# Altium schematic symbol library Interface_I2C.SchLib: 424 symbols (part 12 of 23)
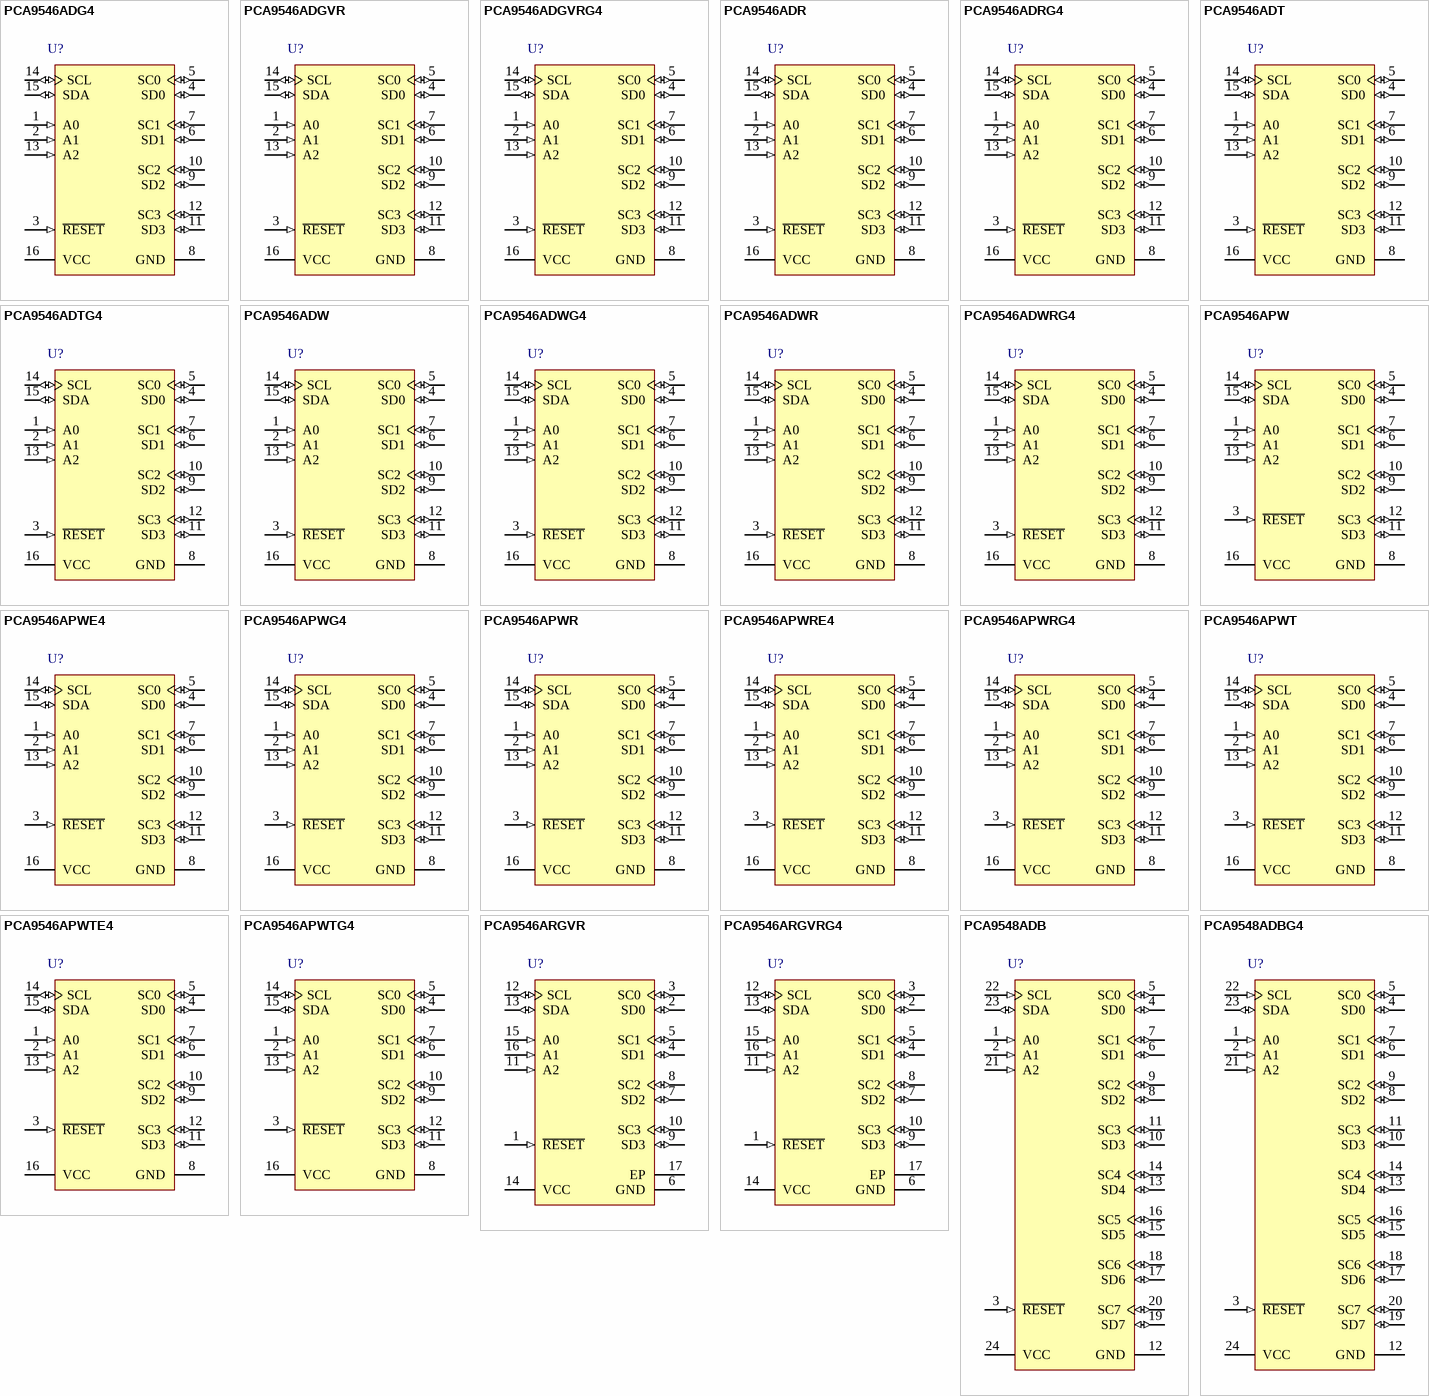
[diagram p24: symbols PCA9546ADG4 to PCA9548ADBG4]

## PCA9548ADBG4
designator U?
8-Channel I2C Switch with Reset, 2.3 to 5.5 V, -40 to 85 degC, 24-pin SSOP (DB), Green (RoHS & no Sb/Br); Manufacturer: Texas Instruments; PartNumber: PCA9548ADBG4; SubFamily: I2C Multiplexer, Switch; Technology Family: PCA; fSCLK(Max)(MHz): 100, 400; VCC(Min)(V): 2.3; VCC(Max)(V): 5.5; Max Frequency(kHz): 400; I2C Address: 1110 xxx; Channel Width: 8; Reset Input: Yes; Simultaneously Active Channels: 1 to 8; DatasheetVersion: SCPS143C; PackageVersion: revE, Dec-2001; PackageReference: DB24; PackageDescription: 24-Pin Plastic Small Outline Package, 8.2 x 5.3 mm Body, 0.65 mm Pitch; Supplier 1: Digi-Key; Supplier Part Number 1: PCA9548ADBG4-ND; Supplier 2: Mouser; Supplier Part Number 2: 595-PCA9548ADBG4; Eco-Plan: Green (RoHS & no Sb/Br); Vcc range(V): 2.3 to 5.5; 5V Tolerant I/O: Yes; Open Drain I/O Type: Yes; Mounting Technology: Surface Mount; Code_JEDEC: MO-150; ComponentLink1Description: Datasheet; ComponentLink1URL: http://www.ti.com/general/docs/lit/getliterature.tsp?genericPartNumber=PCA9548A&fileType=pdf; ComponentLink2Description: Package Specification; ComponentLink2URL: http://www.ti.com/litv/pdf/mpds211a
footprint DB24_N (SOP, 24-Leads, Body 8.2x5.3mm, Pitch 0.65mm, IPC Medium Density)
footprint DB24_L (SOP, 24-Leads, Body 8.2x5.3mm, Pitch 0.65mm, IPC High Density)
footprint DB24_M (SOP, 24-Leads, Body 8.2x5.3mm, Pitch 0.65mm, IPC Low Density)
pins: 1 A0 (in) "Address input 0. Connect directly to VCC or ground.", 2 A1 (in) "Address input 1. Connect directly to VCC or ground.", 3 ~{RESET} (in) "Active-low reset input. Connect to VCC through a pullup resistor, if not used.", 4 SD0 (io) "Serial data 0. Connect to VCC through a pullup resistor.", 5 SC0 (io) "Serial clock 0. Connect to VCC through a pullup resistor.", 6 SD1 (io) "Serial data 1. Connect to VCC through a pullup resistor.", 7 SC1 (io) "Serial clock 1. Connect to VCC through a pullup resistor.", 8 SD2 (io) "Serial data 2. Connect to VCC through a pullup resistor.", 9 SC2 (io) "Serial clock 2. Connect to VCC through a pullup resistor.", 10 SD3 (io) "Serial data 3. Connect to VCC through a pullup resistor.", 11 SC3 (io) "Serial clock 3. Connect to VCC through a pullup resistor.", 12 GND (power) "Ground", 13 SD4 (io) "Serial data 4. Connect to VCC through a pullup resistor.", 14 SC4 (io) "Serial clock 4. Connect to VCC through a pullup resistor.", 15 SD5 (io) "Serial data 5. Connect to VCC through a pullup resistor.", 16 SC5 (io) "Serial clock 5. Connect to VCC through a pullup resistor.", 17 SD6 (io) "Serial data 6. Connect to VCC through a pullup resistor.", 18 SC6 (io) "Serial clock 6. Connect to VCC through a pullup resistor.", 19 SD7 (io) "Serial data 7. Connect to VCC through a pullup resistor.", 20 SC7 (io) "Serial clock 7. Connect to VCC through a pullup resistor.", 21 A2 (in) "Address input 2. Connect directly to VCC or ground.", 22 SCL (in) "Serial clock bus. Connect to VCC through a pullup resistor.", 23 SDA (io) "Serial data bus. Connect to VCC through a pullup resistor.", 24 VCC (power) "Supply voltage"

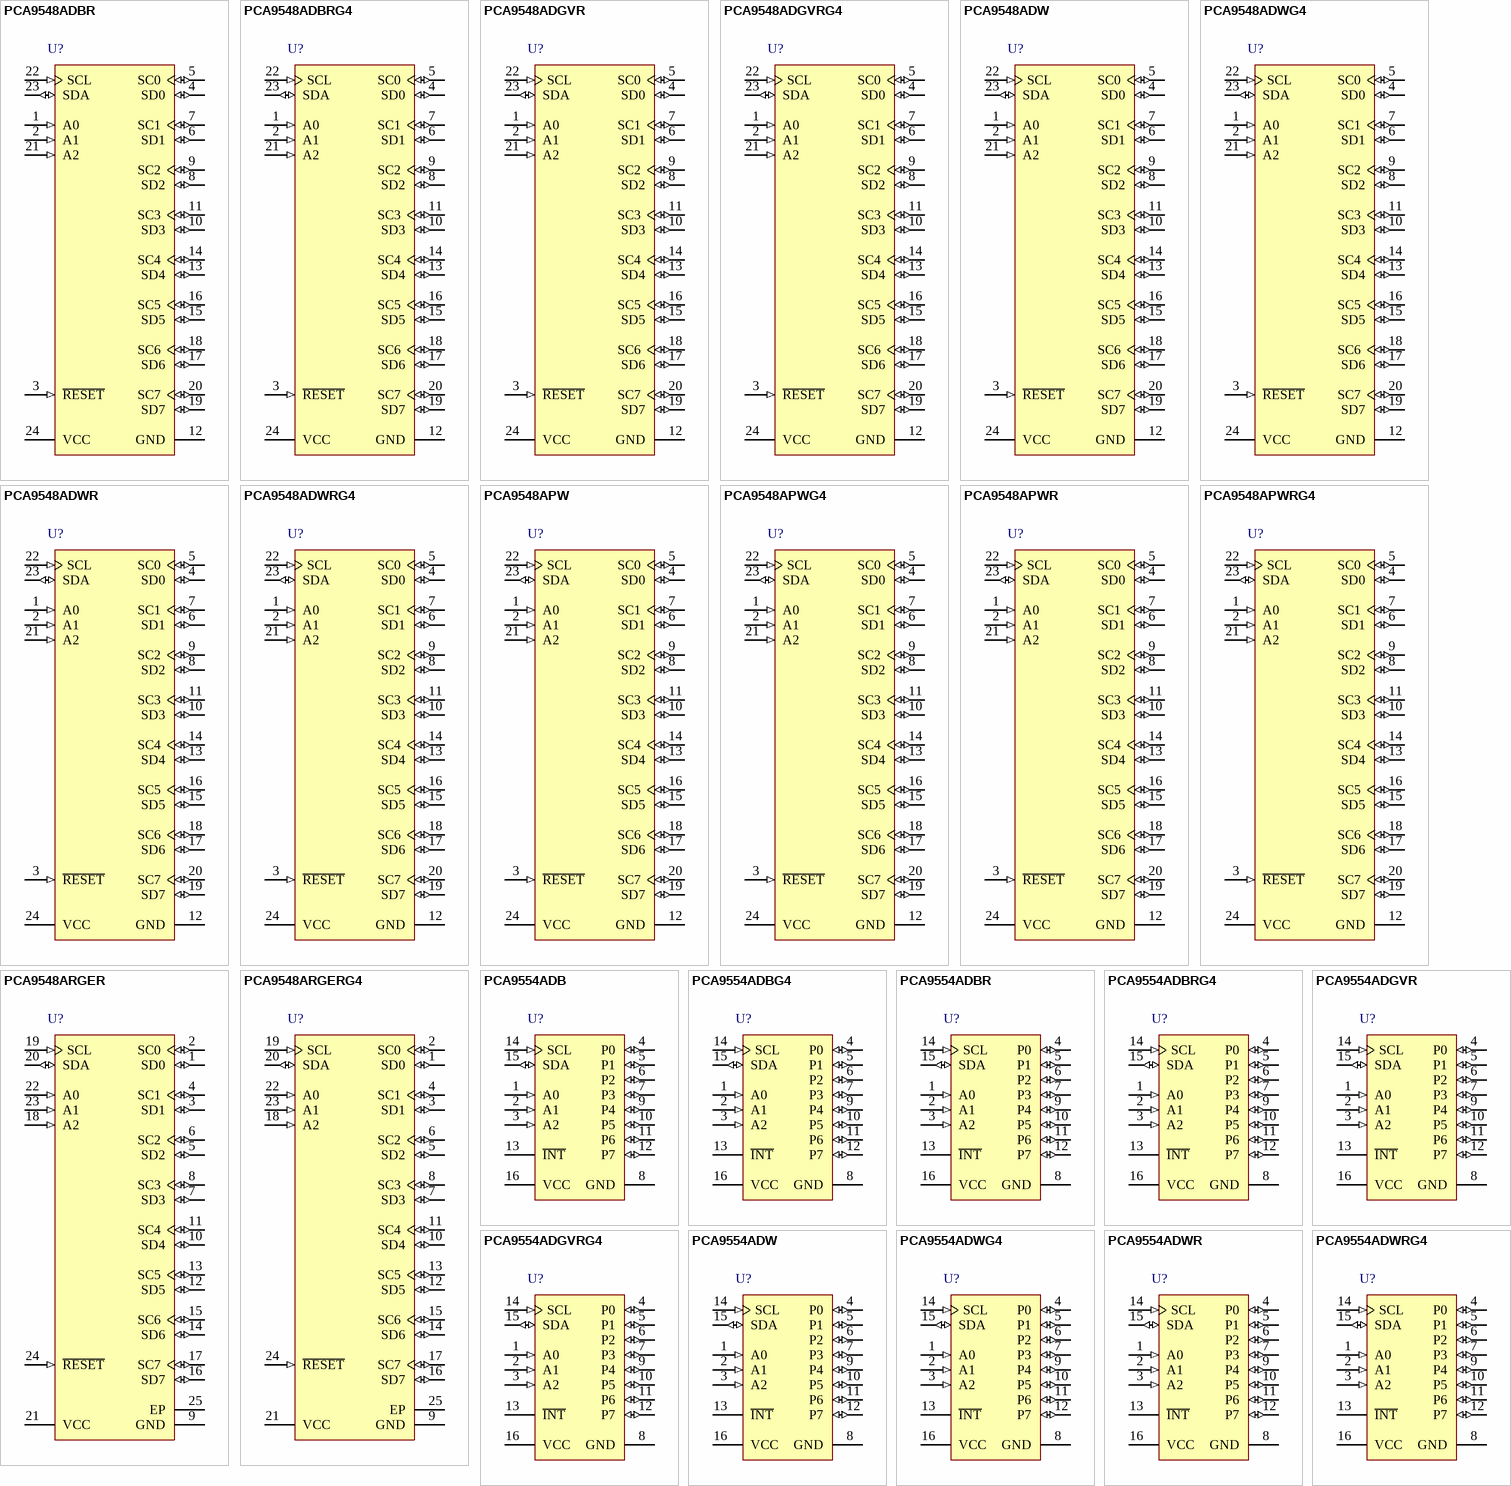
[diagram p7: symbols PCA9548ADBR to PCA9554ADWRG4]

## PCA9548ADBR
designator U?
8-Channel I2C Switch with Reset, 2.3 to 5.5 V, -40 to 85 degC, 24-pin SSOP (DB), Green (RoHS & no Sb/Br); Manufacturer: Texas Instruments; PartNumber: PCA9548ADBR; SubFamily: I2C Multiplexer, Switch; Technology Family: PCA; fSCLK(Max)(MHz): 100, 400; VCC(Min)(V): 2.3; VCC(Max)(V): 5.5; Max Frequency(kHz): 400; I2C Address: 1110 xxx; Channel Width: 8; Reset Input: Yes; Simultaneously Active Channels: 1 to 8; DatasheetVersion: SCPS143C; PackageVersion: revE, Dec-2001; PackageReference: DB24; PackageDescription: 24-Pin Plastic Small Outline Package, 8.2 x 5.3 mm Body, 0.65 mm Pitch; Supplier 1: Digi-Key; Supplier Part Number 1: 296-21772-2-ND; Supplier 2: Digi-Key; Supplier Part Number 2: 296-21772-1-ND; Supplier 3: Digi-Key; Supplier Part Number 3: 296-21772-6-ND; Supplier 4: Mouser; Supplier Part Number 4: 595-PCA9548ADBR; Eco-Plan: Green (RoHS & no Sb/Br); Vcc range(V): 2.3 to 5.5; 5V Tolerant I/O: Yes; Open Drain I/O Type: Yes; Mounting Technology: Surface Mount; Code_JEDEC: MO-150; ComponentLink1Description: Datasheet; ComponentLink1URL: http://www.ti.com/general/docs/lit/getliterature.tsp?genericPartNumber=PCA9548A&fileType=pdf; ComponentLink2Description: Package Specification; ComponentLink2URL: http://www.ti.com/litv/pdf/mpds211a
footprint DB24_N (SOP, 24-Leads, Body 8.2x5.3mm, Pitch 0.65mm, IPC Medium Density)
footprint DB24_L (SOP, 24-Leads, Body 8.2x5.3mm, Pitch 0.65mm, IPC High Density)
footprint DB24_M (SOP, 24-Leads, Body 8.2x5.3mm, Pitch 0.65mm, IPC Low Density)
pins: 1 A0 (in) "Address input 0. Connect directly to VCC or ground.", 2 A1 (in) "Address input 1. Connect directly to VCC or ground.", 3 ~{RESET} (in) "Active-low reset input. Connect to VCC through a pullup resistor, if not used.", 4 SD0 (io) "Serial data 0. Connect to VCC through a pullup resistor.", 5 SC0 (io) "Serial clock 0. Connect to VCC through a pullup resistor.", 6 SD1 (io) "Serial data 1. Connect to VCC through a pullup resistor.", 7 SC1 (io) "Serial clock 1. Connect to VCC through a pullup resistor.", 8 SD2 (io) "Serial data 2. Connect to VCC through a pullup resistor.", 9 SC2 (io) "Serial clock 2. Connect to VCC through a pullup resistor.", 10 SD3 (io) "Serial data 3. Connect to VCC through a pullup resistor.", 11 SC3 (io) "Serial clock 3. Connect to VCC through a pullup resistor.", 12 GND (power) "Ground", 13 SD4 (io) "Serial data 4. Connect to VCC through a pullup resistor.", 14 SC4 (io) "Serial clock 4. Connect to VCC through a pullup resistor.", 15 SD5 (io) "Serial data 5. Connect to VCC through a pullup resistor.", 16 SC5 (io) "Serial clock 5. Connect to VCC through a pullup resistor.", 17 SD6 (io) "Serial data 6. Connect to VCC through a pullup resistor.", 18 SC6 (io) "Serial clock 6. Connect to VCC through a pullup resistor.", 19 SD7 (io) "Serial data 7. Connect to VCC through a pullup resistor.", 20 SC7 (io) "Serial clock 7. Connect to VCC through a pullup resistor.", 21 A2 (in) "Address input 2. Connect directly to VCC or ground.", 22 SCL (in) "Serial clock bus. Connect to VCC through a pullup resistor.", 23 SDA (io) "Serial data bus. Connect to VCC through a pullup resistor.", 24 VCC (power) "Supply voltage"

## PCA9548ADBRG4
designator U?
8-Channel I2C Switch with Reset, 2.3 to 5.5 V, -40 to 85 degC, 24-pin SSOP (DB), Green (RoHS & no Sb/Br); Manufacturer: Texas Instruments; PartNumber: PCA9548ADBRG4; SubFamily: I2C Multiplexer, Switch; Technology Family: PCA; fSCLK(Max)(MHz): 100, 400; VCC(Min)(V): 2.3; VCC(Max)(V): 5.5; Max Frequency(kHz): 400; I2C Address: 1110 xxx; Channel Width: 8; Reset Input: Yes; Simultaneously Active Channels: 1 to 8; DatasheetVersion: SCPS143C; PackageVersion: revE, Dec-2001; PackageReference: DB24; PackageDescription: 24-Pin Plastic Small Outline Package, 8.2 x 5.3 mm Body, 0.65 mm Pitch; Supplier 1: Digi-Key; Supplier Part Number 1: PCA9548ADBRG4-ND; Supplier 2: Mouser; Supplier Part Number 2: 595-PCA9548ADBRG4; Eco-Plan: Green (RoHS & no Sb/Br); Vcc range(V): 2.3 to 5.5; 5V Tolerant I/O: Yes; Open Drain I/O Type: Yes; Mounting Technology: Surface Mount; Code_JEDEC: MO-150; ComponentLink1Description: Datasheet; ComponentLink1URL: http://www.ti.com/general/docs/lit/getliterature.tsp?genericPartNumber=PCA9548A&fileType=pdf; ComponentLink2Description: Package Specification; ComponentLink2URL: http://www.ti.com/litv/pdf/mpds211a
footprint DB24_N (SOP, 24-Leads, Body 8.2x5.3mm, Pitch 0.65mm, IPC Medium Density)
footprint DB24_L (SOP, 24-Leads, Body 8.2x5.3mm, Pitch 0.65mm, IPC High Density)
footprint DB24_M (SOP, 24-Leads, Body 8.2x5.3mm, Pitch 0.65mm, IPC Low Density)
pins: 1 A0 (in) "Address input 0. Connect directly to VCC or ground.", 2 A1 (in) "Address input 1. Connect directly to VCC or ground.", 3 ~{RESET} (in) "Active-low reset input. Connect to VCC through a pullup resistor, if not used.", 4 SD0 (io) "Serial data 0. Connect to VCC through a pullup resistor.", 5 SC0 (io) "Serial clock 0. Connect to VCC through a pullup resistor.", 6 SD1 (io) "Serial data 1. Connect to VCC through a pullup resistor.", 7 SC1 (io) "Serial clock 1. Connect to VCC through a pullup resistor.", 8 SD2 (io) "Serial data 2. Connect to VCC through a pullup resistor.", 9 SC2 (io) "Serial clock 2. Connect to VCC through a pullup resistor.", 10 SD3 (io) "Serial data 3. Connect to VCC through a pullup resistor.", 11 SC3 (io) "Serial clock 3. Connect to VCC through a pullup resistor.", 12 GND (power) "Ground", 13 SD4 (io) "Serial data 4. Connect to VCC through a pullup resistor.", 14 SC4 (io) "Serial clock 4. Connect to VCC through a pullup resistor.", 15 SD5 (io) "Serial data 5. Connect to VCC through a pullup resistor.", 16 SC5 (io) "Serial clock 5. Connect to VCC through a pullup resistor.", 17 SD6 (io) "Serial data 6. Connect to VCC through a pullup resistor.", 18 SC6 (io) "Serial clock 6. Connect to VCC through a pullup resistor.", 19 SD7 (io) "Serial data 7. Connect to VCC through a pullup resistor.", 20 SC7 (io) "Serial clock 7. Connect to VCC through a pullup resistor.", 21 A2 (in) "Address input 2. Connect directly to VCC or ground.", 22 SCL (in) "Serial clock bus. Connect to VCC through a pullup resistor.", 23 SDA (io) "Serial data bus. Connect to VCC through a pullup resistor.", 24 VCC (power) "Supply voltage"

## PCA9548ADGVR
designator U?
8-Channel I2C Switch with Reset, 2.3 to 5.5 V, -40 to 85 degC, 24-pin TVSOP (DGV), Green (RoHS & no Sb/Br); Manufacturer: Texas Instruments; PartNumber: PCA9548ADGVR; SubFamily: I2C Multiplexer, Switch; Technology Family: PCA; fSCLK(Max)(MHz): 100, 400; VCC(Min)(V): 2.3; VCC(Max)(V): 5.5; Max Frequency(kHz): 400; I2C Address: 1110 xxx; Channel Width: 8; Reset Input: Yes; Simultaneously Active Channels: 1 to 8; DatasheetVersion: SCPS143C; PackageVersion: revE, Aug-2000; PackageReference: DGV24; PackageDescription: 24-Pin Thin Shrink Small Outline Package 0.4 mm Pitch; Supplier 1: Digi-Key; Supplier Part Number 1: 296-21773-2-ND; Supplier 2: Digi-Key; Supplier Part Number 2: 296-21773-1-ND; Supplier 3: Digi-Key; Supplier Part Number 3: 296-21773-6-ND; Supplier 4: Mouser; Supplier Part Number 4: 595-PCA9548ADGVR; Eco-Plan: Green (RoHS & no Sb/Br); Vcc range(V): 2.3 to 5.5; 5V Tolerant I/O: Yes; Open Drain I/O Type: Yes; Mounting Technology: Surface Mount; ComponentLink1Description: Datasheet; ComponentLink1URL: http://www.ti.com/general/docs/lit/getliterature.tsp?genericPartNumber=PCA9548A&fileType=pdf; ComponentLink2Description: Package Specification; ComponentLink2URL: http://www.ti.com/litv/pdf/mpds211a
footprint DGV24_N (TSSOP, 24-Leads, Body 5x4.4mm, Pitch 0.4mm, IPC Medium Density)
footprint DGV24_L (TSSOP, 24-Leads, Body 5x4.4mm, Pitch 0.4mm, IPC High Density)
footprint DGV24_M (TSSOP, 24-Leads, Body 5x4.4mm, Pitch 0.4mm, IPC Low Density)
pins: 1 A0 (in) "Address input 0. Connect directly to VCC or ground.", 2 A1 (in) "Address input 1. Connect directly to VCC or ground.", 3 ~{RESET} (in) "Active-low reset input. Connect to VCC through a pullup resistor, if not used.", 4 SD0 (io) "Serial data 0. Connect to VCC through a pullup resistor.", 5 SC0 (io) "Serial clock 0. Connect to VCC through a pullup resistor.", 6 SD1 (io) "Serial data 1. Connect to VCC through a pullup resistor.", 7 SC1 (io) "Serial clock 1. Connect to VCC through a pullup resistor.", 8 SD2 (io) "Serial data 2. Connect to VCC through a pullup resistor.", 9 SC2 (io) "Serial clock 2. Connect to VCC through a pullup resistor.", 10 SD3 (io) "Serial data 3. Connect to VCC through a pullup resistor.", 11 SC3 (io) "Serial clock 3. Connect to VCC through a pullup resistor.", 12 GND (power) "Ground", 13 SD4 (io) "Serial data 4. Connect to VCC through a pullup resistor.", 14 SC4 (io) "Serial clock 4. Connect to VCC through a pullup resistor.", 15 SD5 (io) "Serial data 5. Connect to VCC through a pullup resistor.", 16 SC5 (io) "Serial clock 5. Connect to VCC through a pullup resistor.", 17 SD6 (io) "Serial data 6. Connect to VCC through a pullup resistor.", 18 SC6 (io) "Serial clock 6. Connect to VCC through a pullup resistor.", 19 SD7 (io) "Serial data 7. Connect to VCC through a pullup resistor.", 20 SC7 (io) "Serial clock 7. Connect to VCC through a pullup resistor.", 21 A2 (in) "Address input 2. Connect directly to VCC or ground.", 22 SCL (in) "Serial clock bus. Connect to VCC through a pullup resistor.", 23 SDA (io) "Serial data bus. Connect to VCC through a pullup resistor.", 24 VCC (power) "Supply voltage"

## PCA9548ADGVRG4
designator U?
8-Channel I2C Switch with Reset, 2.3 to 5.5 V, -40 to 85 degC, 24-pin TVSOP (DGV), Green (RoHS & no Sb/Br); Manufacturer: Texas Instruments; PartNumber: PCA9548ADGVRG4; SubFamily: I2C Multiplexer, Switch; Technology Family: PCA; fSCLK(Max)(MHz): 100, 400; VCC(Min)(V): 2.3; VCC(Max)(V): 5.5; Max Frequency(kHz): 400; I2C Address: 1110 xxx; Channel Width: 8; Reset Input: Yes; Simultaneously Active Channels: 1 to 8; DatasheetVersion: SCPS143C; PackageVersion: revE, Aug-2000; PackageReference: DGV24; PackageDescription: 24-Pin Thin Shrink Small Outline Package 0.4 mm Pitch; Supplier 1: Digi-Key; Supplier Part Number 1: PCA9548ADGVRG4-ND; Supplier 2: Mouser; Supplier Part Number 2: 595-PCA9548ADGVRG4; Eco-Plan: Green (RoHS & no Sb/Br); Vcc range(V): 2.3 to 5.5; 5V Tolerant I/O: Yes; Open Drain I/O Type: Yes; Mounting Technology: Surface Mount; ComponentLink1Description: Datasheet; ComponentLink1URL: http://www.ti.com/general/docs/lit/getliterature.tsp?genericPartNumber=PCA9548A&fileType=pdf; ComponentLink2Description: Package Specification; ComponentLink2URL: http://www.ti.com/litv/pdf/mpds211a
footprint DGV24_N (TSSOP, 24-Leads, Body 5x4.4mm, Pitch 0.4mm, IPC Medium Density)
footprint DGV24_L (TSSOP, 24-Leads, Body 5x4.4mm, Pitch 0.4mm, IPC High Density)
footprint DGV24_M (TSSOP, 24-Leads, Body 5x4.4mm, Pitch 0.4mm, IPC Low Density)
pins: 1 A0 (in) "Address input 0. Connect directly to VCC or ground.", 2 A1 (in) "Address input 1. Connect directly to VCC or ground.", 3 ~{RESET} (in) "Active-low reset input. Connect to VCC through a pullup resistor, if not used.", 4 SD0 (io) "Serial data 0. Connect to VCC through a pullup resistor.", 5 SC0 (io) "Serial clock 0. Connect to VCC through a pullup resistor.", 6 SD1 (io) "Serial data 1. Connect to VCC through a pullup resistor.", 7 SC1 (io) "Serial clock 1. Connect to VCC through a pullup resistor.", 8 SD2 (io) "Serial data 2. Connect to VCC through a pullup resistor.", 9 SC2 (io) "Serial clock 2. Connect to VCC through a pullup resistor.", 10 SD3 (io) "Serial data 3. Connect to VCC through a pullup resistor.", 11 SC3 (io) "Serial clock 3. Connect to VCC through a pullup resistor.", 12 GND (power) "Ground", 13 SD4 (io) "Serial data 4. Connect to VCC through a pullup resistor.", 14 SC4 (io) "Serial clock 4. Connect to VCC through a pullup resistor.", 15 SD5 (io) "Serial data 5. Connect to VCC through a pullup resistor.", 16 SC5 (io) "Serial clock 5. Connect to VCC through a pullup resistor.", 17 SD6 (io) "Serial data 6. Connect to VCC through a pullup resistor.", 18 SC6 (io) "Serial clock 6. Connect to VCC through a pullup resistor.", 19 SD7 (io) "Serial data 7. Connect to VCC through a pullup resistor.", 20 SC7 (io) "Serial clock 7. Connect to VCC through a pullup resistor.", 21 A2 (in) "Address input 2. Connect directly to VCC or ground.", 22 SCL (in) "Serial clock bus. Connect to VCC through a pullup resistor.", 23 SDA (io) "Serial data bus. Connect to VCC through a pullup resistor.", 24 VCC (power) "Supply voltage"

## PCA9548ADW
designator U?
8-Channel I2C Switch with Reset, 2.3 to 5.5 V, -40 to 85 degC, 24-pin SOIC (DW), Green (RoHS & no Sb/Br); Manufacturer: Texas Instruments; PartNumber: PCA9548ADW; SubFamily: I2C Multiplexer, Switch; Technology Family: PCA; fSCLK(Max)(MHz): 100, 400; VCC(Min)(V): 2.3; VCC(Max)(V): 5.5; Max Frequency(kHz): 400; I2C Address: 1110 xxx; Channel Width: 8; Reset Input: Yes; Simultaneously Active Channels: 1 to 8; DatasheetVersion: SCPS143C; PackageVersion: revG, Jan-2011; PackageReference: DW24; PackageDescription: 24-Pin Plastic Small Outline Integrated Circuit, 15.4 x 7.5 mm, Pitch 1.27 mm Pitch; Supplier 1: Digi-Key; Supplier Part Number 1: PCA9548ADW-ND; Supplier 2: Farnell; Supplier Part Number 2: 1703439; Supplier 3: Newark; Supplier Part Number 3: 36M9292; Supplier 4: Mouser; Supplier Part Number 4: 595-PCA9548ADW; Eco-Plan: Green (RoHS & no Sb/Br); Vcc range(V): 2.3 to 5.5; 5V Tolerant I/O: Yes; Open Drain I/O Type: Yes; Mounting Technology: Surface Mount; Code_JEDEC: MS-013AD; ComponentLink1Description: Datasheet; ComponentLink1URL: http://www.ti.com/general/docs/lit/getliterature.tsp?genericPartNumber=PCA9548A&fileType=pdf; ComponentLink2Description: Package Specification; ComponentLink2URL: http://www.ti.com/litv/pdf/mpds174a
footprint DW24_N (SOIC, 24-Leads, Body 15.4x7.5mm, Pitch 1.27mm, IPC Medium Density)
footprint DW24_L (SOIC, 24-Leads, Body 15.4x7.5mm, Pitch 1.27mm, IPC High Density)
footprint DW24_M (SOIC, 24-Leads, Body 15.4x7.5mm, Pitch 1.27mm, IPC Low Density)
pins: 1 A0 (in) "Address input 0. Connect directly to VCC or ground.", 2 A1 (in) "Address input 1. Connect directly to VCC or ground.", 3 ~{RESET} (in) "Active-low reset input. Connect to VCC through a pullup resistor, if not used.", 4 SD0 (io) "Serial data 0. Connect to VCC through a pullup resistor.", 5 SC0 (io) "Serial clock 0. Connect to VCC through a pullup resistor.", 6 SD1 (io) "Serial data 1. Connect to VCC through a pullup resistor.", 7 SC1 (io) "Serial clock 1. Connect to VCC through a pullup resistor.", 8 SD2 (io) "Serial data 2. Connect to VCC through a pullup resistor.", 9 SC2 (io) "Serial clock 2. Connect to VCC through a pullup resistor.", 10 SD3 (io) "Serial data 3. Connect to VCC through a pullup resistor.", 11 SC3 (io) "Serial clock 3. Connect to VCC through a pullup resistor.", 12 GND (power) "Ground", 13 SD4 (io) "Serial data 4. Connect to VCC through a pullup resistor.", 14 SC4 (io) "Serial clock 4. Connect to VCC through a pullup resistor.", 15 SD5 (io) "Serial data 5. Connect to VCC through a pullup resistor.", 16 SC5 (io) "Serial clock 5. Connect to VCC through a pullup resistor.", 17 SD6 (io) "Serial data 6. Connect to VCC through a pullup resistor.", 18 SC6 (io) "Serial clock 6. Connect to VCC through a pullup resistor.", 19 SD7 (io) "Serial data 7. Connect to VCC through a pullup resistor.", 20 SC7 (io) "Serial clock 7. Connect to VCC through a pullup resistor.", 21 A2 (in) "Address input 2. Connect directly to VCC or ground.", 22 SCL (in) "Serial clock bus. Connect to VCC through a pullup resistor.", 23 SDA (io) "Serial data bus. Connect to VCC through a pullup resistor.", 24 VCC (power) "Supply voltage"

## PCA9548ADWG4
designator U?
8-Channel I2C Switch with Reset, 2.3 to 5.5 V, -40 to 85 degC, 24-pin SOIC (DW), Green (RoHS & no Sb/Br); Manufacturer: Texas Instruments; PartNumber: PCA9548ADWG4; SubFamily: I2C Multiplexer, Switch; Technology Family: PCA; fSCLK(Max)(MHz): 100, 400; VCC(Min)(V): 2.3; VCC(Max)(V): 5.5; Max Frequency(kHz): 400; I2C Address: 1110 xxx; Channel Width: 8; Reset Input: Yes; Simultaneously Active Channels: 1 to 8; DatasheetVersion: SCPS143C; PackageVersion: revG, Jan-2011; PackageReference: DW24; PackageDescription: 24-Pin Plastic Small Outline Integrated Circuit, 15.4 x 7.5 mm, Pitch 1.27 mm Pitch; Supplier 1: Digi-Key; Supplier Part Number 1: PCA9548ADWG4-ND; Supplier 2: Mouser; Supplier Part Number 2: 595-PCA9548ADWG4; Eco-Plan: Green (RoHS & no Sb/Br); Vcc range(V): 2.3 to 5.5; 5V Tolerant I/O: Yes; Open Drain I/O Type: Yes; Mounting Technology: Surface Mount; Code_JEDEC: MS-013AD; ComponentLink1Description: Datasheet; ComponentLink1URL: http://www.ti.com/general/docs/lit/getliterature.tsp?genericPartNumber=PCA9548A&fileType=pdf; ComponentLink2Description: Package Specification; ComponentLink2URL: http://www.ti.com/litv/pdf/mpds174a
footprint DW24_N (SOIC, 24-Leads, Body 15.4x7.5mm, Pitch 1.27mm, IPC Medium Density)
footprint DW24_L (SOIC, 24-Leads, Body 15.4x7.5mm, Pitch 1.27mm, IPC High Density)
footprint DW24_M (SOIC, 24-Leads, Body 15.4x7.5mm, Pitch 1.27mm, IPC Low Density)
pins: 1 A0 (in) "Address input 0. Connect directly to VCC or ground.", 2 A1 (in) "Address input 1. Connect directly to VCC or ground.", 3 ~{RESET} (in) "Active-low reset input. Connect to VCC through a pullup resistor, if not used.", 4 SD0 (io) "Serial data 0. Connect to VCC through a pullup resistor.", 5 SC0 (io) "Serial clock 0. Connect to VCC through a pullup resistor.", 6 SD1 (io) "Serial data 1. Connect to VCC through a pullup resistor.", 7 SC1 (io) "Serial clock 1. Connect to VCC through a pullup resistor.", 8 SD2 (io) "Serial data 2. Connect to VCC through a pullup resistor.", 9 SC2 (io) "Serial clock 2. Connect to VCC through a pullup resistor.", 10 SD3 (io) "Serial data 3. Connect to VCC through a pullup resistor.", 11 SC3 (io) "Serial clock 3. Connect to VCC through a pullup resistor.", 12 GND (power) "Ground", 13 SD4 (io) "Serial data 4. Connect to VCC through a pullup resistor.", 14 SC4 (io) "Serial clock 4. Connect to VCC through a pullup resistor.", 15 SD5 (io) "Serial data 5. Connect to VCC through a pullup resistor.", 16 SC5 (io) "Serial clock 5. Connect to VCC through a pullup resistor.", 17 SD6 (io) "Serial data 6. Connect to VCC through a pullup resistor.", 18 SC6 (io) "Serial clock 6. Connect to VCC through a pullup resistor.", 19 SD7 (io) "Serial data 7. Connect to VCC through a pullup resistor.", 20 SC7 (io) "Serial clock 7. Connect to VCC through a pullup resistor.", 21 A2 (in) "Address input 2. Connect directly to VCC or ground.", 22 SCL (in) "Serial clock bus. Connect to VCC through a pullup resistor.", 23 SDA (io) "Serial data bus. Connect to VCC through a pullup resistor.", 24 VCC (power) "Supply voltage"

## PCA9548ADWR
designator U?
8-Channel I2C Switch with Reset, 2.3 to 5.5 V, -40 to 85 degC, 24-pin SOIC (DW), Green (RoHS & no Sb/Br); Manufacturer: Texas Instruments; PartNumber: PCA9548ADWR; SubFamily: I2C Multiplexer, Switch; Technology Family: PCA; fSCLK(Max)(MHz): 100, 400; VCC(Min)(V): 2.3; VCC(Max)(V): 5.5; Max Frequency(kHz): 400; I2C Address: 1110 xxx; Channel Width: 8; Reset Input: Yes; Simultaneously Active Channels: 1 to 8; DatasheetVersion: SCPS143C; PackageVersion: revG, Jan-2011; PackageReference: DW24; PackageDescription: 24-Pin Plastic Small Outline Integrated Circuit, 15.4 x 7.5 mm, Pitch 1.27 mm Pitch; Supplier 1: Digi-Key; Supplier Part Number 1: 296-21774-2-ND; Supplier 2: Digi-Key; Supplier Part Number 2: 296-21774-1-ND; Supplier 3: Digi-Key; Supplier Part Number 3: 296-21774-6-ND; Supplier 4: Mouser; Supplier Part Number 4: 595-PCA9548ADWR; Eco-Plan: Green (RoHS & no Sb/Br); Vcc range(V): 2.3 to 5.5; 5V Tolerant I/O: Yes; Open Drain I/O Type: Yes; Mounting Technology: Surface Mount; Code_JEDEC: MS-013AD; ComponentLink1Description: Datasheet; ComponentLink1URL: http://www.ti.com/general/docs/lit/getliterature.tsp?genericPartNumber=PCA9548A&fileType=pdf; ComponentLink2Description: Package Specification; ComponentLink2URL: http://www.ti.com/litv/pdf/mpds174a
footprint DW24_N (SOIC, 24-Leads, Body 15.4x7.5mm, Pitch 1.27mm, IPC Medium Density)
footprint DW24_L (SOIC, 24-Leads, Body 15.4x7.5mm, Pitch 1.27mm, IPC High Density)
footprint DW24_M (SOIC, 24-Leads, Body 15.4x7.5mm, Pitch 1.27mm, IPC Low Density)
pins: 1 A0 (in) "Address input 0. Connect directly to VCC or ground.", 2 A1 (in) "Address input 1. Connect directly to VCC or ground.", 3 ~{RESET} (in) "Active-low reset input. Connect to VCC through a pullup resistor, if not used.", 4 SD0 (io) "Serial data 0. Connect to VCC through a pullup resistor.", 5 SC0 (io) "Serial clock 0. Connect to VCC through a pullup resistor.", 6 SD1 (io) "Serial data 1. Connect to VCC through a pullup resistor.", 7 SC1 (io) "Serial clock 1. Connect to VCC through a pullup resistor.", 8 SD2 (io) "Serial data 2. Connect to VCC through a pullup resistor.", 9 SC2 (io) "Serial clock 2. Connect to VCC through a pullup resistor.", 10 SD3 (io) "Serial data 3. Connect to VCC through a pullup resistor.", 11 SC3 (io) "Serial clock 3. Connect to VCC through a pullup resistor.", 12 GND (power) "Ground", 13 SD4 (io) "Serial data 4. Connect to VCC through a pullup resistor.", 14 SC4 (io) "Serial clock 4. Connect to VCC through a pullup resistor.", 15 SD5 (io) "Serial data 5. Connect to VCC through a pullup resistor.", 16 SC5 (io) "Serial clock 5. Connect to VCC through a pullup resistor.", 17 SD6 (io) "Serial data 6. Connect to VCC through a pullup resistor.", 18 SC6 (io) "Serial clock 6. Connect to VCC through a pullup resistor.", 19 SD7 (io) "Serial data 7. Connect to VCC through a pullup resistor.", 20 SC7 (io) "Serial clock 7. Connect to VCC through a pullup resistor.", 21 A2 (in) "Address input 2. Connect directly to VCC or ground.", 22 SCL (in) "Serial clock bus. Connect to VCC through a pullup resistor.", 23 SDA (io) "Serial data bus. Connect to VCC through a pullup resistor.", 24 VCC (power) "Supply voltage"

## PCA9548ADWRG4
designator U?
8-Channel I2C Switch with Reset, 2.3 to 5.5 V, -40 to 85 degC, 24-pin SOIC (DW), Green (RoHS & no Sb/Br); Manufacturer: Texas Instruments; PartNumber: PCA9548ADWRG4; SubFamily: I2C Multiplexer, Switch; Technology Family: PCA; fSCLK(Max)(MHz): 100, 400; VCC(Min)(V): 2.3; VCC(Max)(V): 5.5; Max Frequency(kHz): 400; I2C Address: 1110 xxx; Channel Width: 8; Reset Input: Yes; Simultaneously Active Channels: 1 to 8; DatasheetVersion: SCPS143C; PackageVersion: revG, Jan-2011; PackageReference: DW24; PackageDescription: 24-Pin Plastic Small Outline Integrated Circuit, 15.4 x 7.5 mm, Pitch 1.27 mm Pitch; Supplier 1: Digi-Key; Supplier Part Number 1: PCA9548ADWRG4-ND; Supplier 2: Mouser; Supplier Part Number 2: 595-PCA9548ADWRG4; Eco-Plan: Green (RoHS & no Sb/Br); Vcc range(V): 2.3 to 5.5; 5V Tolerant I/O: Yes; Open Drain I/O Type: Yes; Mounting Technology: Surface Mount; Code_JEDEC: MS-013AD; ComponentLink1Description: Datasheet; ComponentLink1URL: http://www.ti.com/general/docs/lit/getliterature.tsp?genericPartNumber=PCA9548A&fileType=pdf; ComponentLink2Description: Package Specification; ComponentLink2URL: http://www.ti.com/litv/pdf/mpds174a
footprint DW24_N (SOIC, 24-Leads, Body 15.4x7.5mm, Pitch 1.27mm, IPC Medium Density)
footprint DW24_L (SOIC, 24-Leads, Body 15.4x7.5mm, Pitch 1.27mm, IPC High Density)
footprint DW24_M (SOIC, 24-Leads, Body 15.4x7.5mm, Pitch 1.27mm, IPC Low Density)
pins: 1 A0 (in) "Address input 0. Connect directly to VCC or ground.", 2 A1 (in) "Address input 1. Connect directly to VCC or ground.", 3 ~{RESET} (in) "Active-low reset input. Connect to VCC through a pullup resistor, if not used.", 4 SD0 (io) "Serial data 0. Connect to VCC through a pullup resistor.", 5 SC0 (io) "Serial clock 0. Connect to VCC through a pullup resistor.", 6 SD1 (io) "Serial data 1. Connect to VCC through a pullup resistor.", 7 SC1 (io) "Serial clock 1. Connect to VCC through a pullup resistor.", 8 SD2 (io) "Serial data 2. Connect to VCC through a pullup resistor.", 9 SC2 (io) "Serial clock 2. Connect to VCC through a pullup resistor.", 10 SD3 (io) "Serial data 3. Connect to VCC through a pullup resistor.", 11 SC3 (io) "Serial clock 3. Connect to VCC through a pullup resistor.", 12 GND (power) "Ground", 13 SD4 (io) "Serial data 4. Connect to VCC through a pullup resistor.", 14 SC4 (io) "Serial clock 4. Connect to VCC through a pullup resistor.", 15 SD5 (io) "Serial data 5. Connect to VCC through a pullup resistor.", 16 SC5 (io) "Serial clock 5. Connect to VCC through a pullup resistor.", 17 SD6 (io) "Serial data 6. Connect to VCC through a pullup resistor.", 18 SC6 (io) "Serial clock 6. Connect to VCC through a pullup resistor.", 19 SD7 (io) "Serial data 7. Connect to VCC through a pullup resistor.", 20 SC7 (io) "Serial clock 7. Connect to VCC through a pullup resistor.", 21 A2 (in) "Address input 2. Connect directly to VCC or ground.", 22 SCL (in) "Serial clock bus. Connect to VCC through a pullup resistor.", 23 SDA (io) "Serial data bus. Connect to VCC through a pullup resistor.", 24 VCC (power) "Supply voltage"

## PCA9548APW
designator U?
8-Channel I2C Switch with Reset, 2.3 to 5.5 V, -40 to 85 degC, 24-pin TSSOP (PW), Green (RoHS & no Sb/Br); Manufacturer: Texas Instruments; PartNumber: PCA9548APW; SubFamily: I2C Multiplexer, Switch; Technology Family: PCA; fSCLK(Max)(MHz): 100, 400; VCC(Min)(V): 2.3; VCC(Max)(V): 5.5; Max Frequency(kHz): 400; I2C Address: 1110 xxx; Channel Width: 8; Reset Input: Yes; Simultaneously Active Channels: 1 to 8; DatasheetVersion: SCPS143C; PackageVersion: revG, Feb-2011; PackageReference: PW24; PackageDescription: 24-Pin Thin Small Outline Package 0.65 mm Pitch; Supplier 1: Digi-Key; Supplier Part Number 1: PCA9548APWTI-ND; Supplier 2: Newark; Supplier Part Number 2: 22M1601; Supplier 3: Mouser; Supplier Part Number 3: 595-PCA9548APW; Eco-Plan: Green (RoHS & no Sb/Br); Vcc range(V): 2.3 to 5.5; 5V Tolerant I/O: Yes; Open Drain I/O Type: Yes; Mounting Technology: Surface Mount; Code_JEDEC: MO-153; ComponentLink1Description: Datasheet; ComponentLink1URL: http://www.ti.com/general/docs/lit/getliterature.tsp?genericPartNumber=PCA9548A&fileType=pdf; ComponentLink2Description: Package Specification; ComponentLink2URL: http://www.ti.com/litv/pdf/mpds177g
footprint PW24_N (TSOP, 24-Leads, Body 7.8x4.4mm, Pitch 0.65mm, IPC Medium Density)
footprint PW24_L (TSOP, 24-Leads, Body 7.8x4.4mm, Pitch 0.65mm, IPC High Density)
footprint PW24_M (TSOP, 24-Leads, Body 7.8x4.4mm, Pitch 0.65mm, IPC Low Density)
pins: 1 A0 (in) "Address input 0. Connect directly to VCC or ground.", 2 A1 (in) "Address input 1. Connect directly to VCC or ground.", 3 ~{RESET} (in) "Active-low reset input. Connect to VCC through a pullup resistor, if not used.", 4 SD0 (io) "Serial data 0. Connect to VCC through a pullup resistor.", 5 SC0 (io) "Serial clock 0. Connect to VCC through a pullup resistor.", 6 SD1 (io) "Serial data 1. Connect to VCC through a pullup resistor.", 7 SC1 (io) "Serial clock 1. Connect to VCC through a pullup resistor.", 8 SD2 (io) "Serial data 2. Connect to VCC through a pullup resistor.", 9 SC2 (io) "Serial clock 2. Connect to VCC through a pullup resistor.", 10 SD3 (io) "Serial data 3. Connect to VCC through a pullup resistor.", 11 SC3 (io) "Serial clock 3. Connect to VCC through a pullup resistor.", 12 GND (power) "Ground", 13 SD4 (io) "Serial data 4. Connect to VCC through a pullup resistor.", 14 SC4 (io) "Serial clock 4. Connect to VCC through a pullup resistor.", 15 SD5 (io) "Serial data 5. Connect to VCC through a pullup resistor.", 16 SC5 (io) "Serial clock 5. Connect to VCC through a pullup resistor.", 17 SD6 (io) "Serial data 6. Connect to VCC through a pullup resistor.", 18 SC6 (io) "Serial clock 6. Connect to VCC through a pullup resistor.", 19 SD7 (io) "Serial data 7. Connect to VCC through a pullup resistor.", 20 SC7 (io) "Serial clock 7. Connect to VCC through a pullup resistor.", 21 A2 (in) "Address input 2. Connect directly to VCC or ground.", 22 SCL (in) "Serial clock bus. Connect to VCC through a pullup resistor.", 23 SDA (io) "Serial data bus. Connect to VCC through a pullup resistor.", 24 VCC (power) "Supply voltage"

## PCA9548APWG4
designator U?
8-Channel I2C Switch with Reset, 2.3 to 5.5 V, -40 to 85 degC, 24-pin TSSOP (PW), Green (RoHS & no Sb/Br); Manufacturer: Texas Instruments; PartNumber: PCA9548APWG4; SubFamily: I2C Multiplexer, Switch; Technology Family: PCA; fSCLK(Max)(MHz): 100, 400; VCC(Min)(V): 2.3; VCC(Max)(V): 5.5; Max Frequency(kHz): 400; I2C Address: 1110 xxx; Channel Width: 8; Reset Input: Yes; Simultaneously Active Channels: 1 to 8; DatasheetVersion: SCPS143C; PackageVersion: revG, Feb-2011; PackageReference: PW24; PackageDescription: 24-Pin Thin Small Outline Package 0.65 mm Pitch; Supplier 1: Digi-Key; Supplier Part Number 1: PCA9548APWG4-ND; Supplier 2: Newark; Supplier Part Number 2: 46M6792; Supplier 3: Mouser; Supplier Part Number 3: 595-PCA9548APWG4; Eco-Plan: Green (RoHS & no Sb/Br); Vcc range(V): 2.3 to 5.5; 5V Tolerant I/O: Yes; Open Drain I/O Type: Yes; Mounting Technology: Surface Mount; Code_JEDEC: MO-153; ComponentLink1Description: Datasheet; ComponentLink1URL: http://www.ti.com/general/docs/lit/getliterature.tsp?genericPartNumber=PCA9548A&fileType=pdf; ComponentLink2Description: Package Specification; ComponentLink2URL: http://www.ti.com/litv/pdf/mpds177g
footprint PW24_N (TSOP, 24-Leads, Body 7.8x4.4mm, Pitch 0.65mm, IPC Medium Density)
footprint PW24_L (TSOP, 24-Leads, Body 7.8x4.4mm, Pitch 0.65mm, IPC High Density)
footprint PW24_M (TSOP, 24-Leads, Body 7.8x4.4mm, Pitch 0.65mm, IPC Low Density)
pins: 1 A0 (in) "Address input 0. Connect directly to VCC or ground.", 2 A1 (in) "Address input 1. Connect directly to VCC or ground.", 3 ~{RESET} (in) "Active-low reset input. Connect to VCC through a pullup resistor, if not used.", 4 SD0 (io) "Serial data 0. Connect to VCC through a pullup resistor.", 5 SC0 (io) "Serial clock 0. Connect to VCC through a pullup resistor.", 6 SD1 (io) "Serial data 1. Connect to VCC through a pullup resistor.", 7 SC1 (io) "Serial clock 1. Connect to VCC through a pullup resistor.", 8 SD2 (io) "Serial data 2. Connect to VCC through a pullup resistor.", 9 SC2 (io) "Serial clock 2. Connect to VCC through a pullup resistor.", 10 SD3 (io) "Serial data 3. Connect to VCC through a pullup resistor.", 11 SC3 (io) "Serial clock 3. Connect to VCC through a pullup resistor.", 12 GND (power) "Ground", 13 SD4 (io) "Serial data 4. Connect to VCC through a pullup resistor.", 14 SC4 (io) "Serial clock 4. Connect to VCC through a pullup resistor.", 15 SD5 (io) "Serial data 5. Connect to VCC through a pullup resistor.", 16 SC5 (io) "Serial clock 5. Connect to VCC through a pullup resistor.", 17 SD6 (io) "Serial data 6. Connect to VCC through a pullup resistor.", 18 SC6 (io) "Serial clock 6. Connect to VCC through a pullup resistor.", 19 SD7 (io) "Serial data 7. Connect to VCC through a pullup resistor.", 20 SC7 (io) "Serial clock 7. Connect to VCC through a pullup resistor.", 21 A2 (in) "Address input 2. Connect directly to VCC or ground.", 22 SCL (in) "Serial clock bus. Connect to VCC through a pullup resistor.", 23 SDA (io) "Serial data bus. Connect to VCC through a pullup resistor.", 24 VCC (power) "Supply voltage"

## PCA9548APWR
designator U?
8-Channel I2C Switch with Reset, 2.3 to 5.5 V, -40 to 85 degC, 24-pin TSSOP (PW), Green (RoHS & no Sb/Br); Manufacturer: Texas Instruments; PartNumber: PCA9548APWR; SubFamily: I2C Multiplexer, Switch; Technology Family: PCA; fSCLK(Max)(MHz): 100, 400; VCC(Min)(V): 2.3; VCC(Max)(V): 5.5; Max Frequency(kHz): 400; I2C Address: 1110 xxx; Channel Width: 8; Reset Input: Yes; Simultaneously Active Channels: 1 to 8; DatasheetVersion: SCPS143C; PackageVersion: revG, Feb-2011; PackageReference: PW24; PackageDescription: 24-Pin Thin Small Outline Package 0.65 mm Pitch; Supplier 1: Digi-Key; Supplier Part Number 1: 296-21775-2-ND; Supplier 2: Digi-Key; Supplier Part Number 2: 296-21775-1-ND; Supplier 3: Digi-Key; Supplier Part Number 3: 296-21775-6-ND; Supplier 4: Farnell; Supplier Part Number 4: 1607855; Supplier 5: Newark; Supplier Part Number 5: 22M1602; Supplier 6: Mouser; Supplier Part Number 6: 595-PCA9548APWR; Eco-Plan: Green (RoHS & no Sb/Br); Vcc range(V): 2.3 to 5.5; 5V Tolerant I/O: Yes; Open Drain I/O Type: Yes; Mounting Technology: Surface Mount; Code_JEDEC: MO-153; ComponentLink1Description: Datasheet; ComponentLink1URL: http://www.ti.com/general/docs/lit/getliterature.tsp?genericPartNumber=PCA9548A&fileType=pdf; ComponentLink2Description: Package Specification; ComponentLink2URL: http://www.ti.com/litv/pdf/mpds177g
footprint PW24_N (TSOP, 24-Leads, Body 7.8x4.4mm, Pitch 0.65mm, IPC Medium Density)
footprint PW24_L (TSOP, 24-Leads, Body 7.8x4.4mm, Pitch 0.65mm, IPC High Density)
footprint PW24_M (TSOP, 24-Leads, Body 7.8x4.4mm, Pitch 0.65mm, IPC Low Density)
pins: 1 A0 (in) "Address input 0. Connect directly to VCC or ground.", 2 A1 (in) "Address input 1. Connect directly to VCC or ground.", 3 ~{RESET} (in) "Active-low reset input. Connect to VCC through a pullup resistor, if not used.", 4 SD0 (io) "Serial data 0. Connect to VCC through a pullup resistor.", 5 SC0 (io) "Serial clock 0. Connect to VCC through a pullup resistor.", 6 SD1 (io) "Serial data 1. Connect to VCC through a pullup resistor.", 7 SC1 (io) "Serial clock 1. Connect to VCC through a pullup resistor.", 8 SD2 (io) "Serial data 2. Connect to VCC through a pullup resistor.", 9 SC2 (io) "Serial clock 2. Connect to VCC through a pullup resistor.", 10 SD3 (io) "Serial data 3. Connect to VCC through a pullup resistor.", 11 SC3 (io) "Serial clock 3. Connect to VCC through a pullup resistor.", 12 GND (power) "Ground", 13 SD4 (io) "Serial data 4. Connect to VCC through a pullup resistor.", 14 SC4 (io) "Serial clock 4. Connect to VCC through a pullup resistor.", 15 SD5 (io) "Serial data 5. Connect to VCC through a pullup resistor.", 16 SC5 (io) "Serial clock 5. Connect to VCC through a pullup resistor.", 17 SD6 (io) "Serial data 6. Connect to VCC through a pullup resistor.", 18 SC6 (io) "Serial clock 6. Connect to VCC through a pullup resistor.", 19 SD7 (io) "Serial data 7. Connect to VCC through a pullup resistor.", 20 SC7 (io) "Serial clock 7. Connect to VCC through a pullup resistor.", 21 A2 (in) "Address input 2. Connect directly to VCC or ground.", 22 SCL (in) "Serial clock bus. Connect to VCC through a pullup resistor.", 23 SDA (io) "Serial data bus. Connect to VCC through a pullup resistor.", 24 VCC (power) "Supply voltage"

## PCA9548APWRG4
designator U?
8-Channel I2C Switch with Reset, 2.3 to 5.5 V, -40 to 85 degC, 24-pin TSSOP (PW), Green (RoHS & no Sb/Br); Manufacturer: Texas Instruments; PartNumber: PCA9548APWRG4; SubFamily: I2C Multiplexer, Switch; Technology Family: PCA; fSCLK(Max)(MHz): 100, 400; VCC(Min)(V): 2.3; VCC(Max)(V): 5.5; Max Frequency(kHz): 400; I2C Address: 1110 xxx; Channel Width: 8; Reset Input: Yes; Simultaneously Active Channels: 1 to 8; DatasheetVersion: SCPS143C; PackageVersion: revG, Feb-2011; PackageReference: PW24; PackageDescription: 24-Pin Thin Small Outline Package 0.65 mm Pitch; Supplier 1: Digi-Key; Supplier Part Number 1: PCA9548APWRG4-ND; Supplier 2: Newark; Supplier Part Number 2: 46M6793; Supplier 3: Mouser; Supplier Part Number 3: 595-PCA9548APWRG4; Eco-Plan: Green (RoHS & no Sb/Br); Vcc range(V): 2.3 to 5.5; 5V Tolerant I/O: Yes; Open Drain I/O Type: Yes; Mounting Technology: Surface Mount; Code_JEDEC: MO-153; ComponentLink1Description: Datasheet; ComponentLink1URL: http://www.ti.com/general/docs/lit/getliterature.tsp?genericPartNumber=PCA9548A&fileType=pdf; ComponentLink2Description: Package Specification; ComponentLink2URL: http://www.ti.com/litv/pdf/mpds177g
footprint PW24_N (TSOP, 24-Leads, Body 7.8x4.4mm, Pitch 0.65mm, IPC Medium Density)
footprint PW24_L (TSOP, 24-Leads, Body 7.8x4.4mm, Pitch 0.65mm, IPC High Density)
footprint PW24_M (TSOP, 24-Leads, Body 7.8x4.4mm, Pitch 0.65mm, IPC Low Density)
pins: 1 A0 (in) "Address input 0. Connect directly to VCC or ground.", 2 A1 (in) "Address input 1. Connect directly to VCC or ground.", 3 ~{RESET} (in) "Active-low reset input. Connect to VCC through a pullup resistor, if not used.", 4 SD0 (io) "Serial data 0. Connect to VCC through a pullup resistor.", 5 SC0 (io) "Serial clock 0. Connect to VCC through a pullup resistor.", 6 SD1 (io) "Serial data 1. Connect to VCC through a pullup resistor.", 7 SC1 (io) "Serial clock 1. Connect to VCC through a pullup resistor.", 8 SD2 (io) "Serial data 2. Connect to VCC through a pullup resistor.", 9 SC2 (io) "Serial clock 2. Connect to VCC through a pullup resistor.", 10 SD3 (io) "Serial data 3. Connect to VCC through a pullup resistor.", 11 SC3 (io) "Serial clock 3. Connect to VCC through a pullup resistor.", 12 GND (power) "Ground", 13 SD4 (io) "Serial data 4. Connect to VCC through a pullup resistor.", 14 SC4 (io) "Serial clock 4. Connect to VCC through a pullup resistor.", 15 SD5 (io) "Serial data 5. Connect to VCC through a pullup resistor.", 16 SC5 (io) "Serial clock 5. Connect to VCC through a pullup resistor.", 17 SD6 (io) "Serial data 6. Connect to VCC through a pullup resistor.", 18 SC6 (io) "Serial clock 6. Connect to VCC through a pullup resistor.", 19 SD7 (io) "Serial data 7. Connect to VCC through a pullup resistor.", 20 SC7 (io) "Serial clock 7. Connect to VCC through a pullup resistor.", 21 A2 (in) "Address input 2. Connect directly to VCC or ground.", 22 SCL (in) "Serial clock bus. Connect to VCC through a pullup resistor.", 23 SDA (io) "Serial data bus. Connect to VCC through a pullup resistor.", 24 VCC (power) "Supply voltage"

## PCA9548ARGER
designator U?
8-Channel I2C Switch with Reset, 2.3 to 5.5 V, -40 to 85 degC, 24-pin VQFN (RGE), Green (RoHS & no Sb/Br); Manufacturer: Texas Instruments; PartNumber: PCA9548ARGER; SubFamily: I2C Multiplexer, Switch; Technology Family: PCA; fSCLK(Max)(MHz): 100, 400; VCC(Min)(V): 2.3; VCC(Max)(V): 5.5; Max Frequency(kHz): 400; I2C Address: 1110 xxx; Channel Width: 8; Reset Input: Yes; Simultaneously Active Channels: 1 to 8; DatasheetVersion: SCPS143C; PackageVersion: Dec-2002; PackageReference: RGE24; PackageDescription: 24-Pin Plastic Quad Flat No-Lead 0.5 mm Pitch; Supplier 1: Digi-Key; Supplier Part Number 1: 296-21776-2-ND; Supplier 2: Digi-Key; Supplier Part Number 2: 296-21776-1-ND; Supplier 3: Digi-Key; Supplier Part Number 3: 296-21776-6-ND; Supplier 4: Newark; Supplier Part Number 4: 33M9590; Supplier 5: Mouser; Supplier Part Number 5: 595-PCA9548ARGER; Eco-Plan: Green (RoHS & no Sb/Br); Vcc range(V): 2.3 to 5.5; 5V Tolerant I/O: Yes; Open Drain I/O Type: Yes; Mounting Technology: Surface Mount; Code_JEDEC: MO-220; ComponentLink1Description: Datasheet; ComponentLink1URL: http://www.ti.com/general/docs/lit/getliterature.tsp?genericPartNumber=PCA9548A&fileType=pdf; ComponentLink2Description: Package Specification; ComponentLink2URL: http://www.ti.com/litv/pdf/msso002e
footprint RGE24 (QFN, 24-Leads, Body 4x4mm, Pitch 0.5mm, Thermal Pad 2.45x2.45mm, TI Recommended)
pins: 1 SD0 (io) "Serial data 0. Connect to VCC through a pullup resistor.", 2 SC0 (io) "Serial clock 0. Connect to VCC through a pullup resistor.", 3 SD1 (io) "Serial data 1. Connect to VCC through a pullup resistor.", 4 SC1 (io) "Serial clock 1. Connect to VCC through a pullup resistor.", 5 SD2 (io) "Serial data 2. Connect to VCC through a pullup resistor.", 6 SC2 (io) "Serial clock 2. Connect to VCC through a pullup resistor.", 7 SD3 (io) "Serial data 3. Connect to VCC through a pullup resistor.", 8 SC3 (io) "Serial clock 3. Connect to VCC through a pullup resistor.", 9 GND (power) "Ground", 10 SD4 (io) "Serial data 4. Connect to VCC through a pullup resistor.", 11 SC4 (io) "Serial clock 4. Connect to VCC through a pullup resistor.", 12 SD5 (io) "Serial data 5. Connect to VCC through a pullup resistor.", 13 SC5 (io) "Serial clock 5. Connect to VCC through a pullup resistor.", 14 SD6 (io) "Serial data 6. Connect to VCC through a pullup resistor.", 15 SC6 (io) "Serial clock 6. Connect to VCC through a pullup resistor.", 16 SD7 (io) "Serial data 7. Connect to VCC through a pullup resistor.", 17 SC7 (io) "Serial clock 7. Connect to VCC through a pullup resistor.", 18 A2 (in) "Address input 2. Connect directly to VCC or ground.", 19 SCL (in) "Serial clock bus. Connect to VCC through a pullup resistor.", 20 SDA (io) "Serial data bus. Connect to VCC through a pullup resistor.", 21 VCC (power) "Supply voltage", 22 A0 (in) "Address input 0. Connect directly to VCC or ground.", 23 A1 (in) "Address input 1. Connect directly to VCC or ground.", 24 ~{RESET} (in) "Active-low reset input. Connect to VCC through a pullup resistor, if not used.", 25 EP (power) "Exposed Pad"

## PCA9548ARGERG4
designator U?
8-Channel I2C Switch with Reset, 2.3 to 5.5 V, -40 to 85 degC, 24-pin VQFN (RGE), Green (RoHS & no Sb/Br); Manufacturer: Texas Instruments; PartNumber: PCA9548ARGERG4; SubFamily: I2C Multiplexer, Switch; Technology Family: PCA; fSCLK(Max)(MHz): 100, 400; VCC(Min)(V): 2.3; VCC(Max)(V): 5.5; Max Frequency(kHz): 400; I2C Address: 1110 xxx; Channel Width: 8; Reset Input: Yes; Simultaneously Active Channels: 1 to 8; DatasheetVersion: SCPS143C; PackageVersion: Dec-2002; PackageReference: RGE24; PackageDescription: 24-Pin Plastic Quad Flat No-Lead 0.5 mm Pitch; Supplier 1: Digi-Key; Supplier Part Number 1: PCA9548ARGERG4-ND; Supplier 2: Mouser; Supplier Part Number 2: 595-PCA9548ARGERG4; Eco-Plan: Green (RoHS & no Sb/Br); Vcc range(V): 2.3 to 5.5; 5V Tolerant I/O: Yes; Open Drain I/O Type: Yes; Mounting Technology: Surface Mount; Code_JEDEC: MO-220; ComponentLink1Description: Datasheet; ComponentLink1URL: http://www.ti.com/general/docs/lit/getliterature.tsp?genericPartNumber=PCA9548A&fileType=pdf; ComponentLink2Description: Package Specification; ComponentLink2URL: http://www.ti.com/litv/pdf/msso002e
footprint RGE24 (QFN, 24-Leads, Body 4x4mm, Pitch 0.5mm, Thermal Pad 2.45x2.45mm, TI Recommended)
pins: 1 SD0 (io) "Serial data 0. Connect to VCC through a pullup resistor.", 2 SC0 (io) "Serial clock 0. Connect to VCC through a pullup resistor.", 3 SD1 (io) "Serial data 1. Connect to VCC through a pullup resistor.", 4 SC1 (io) "Serial clock 1. Connect to VCC through a pullup resistor.", 5 SD2 (io) "Serial data 2. Connect to VCC through a pullup resistor.", 6 SC2 (io) "Serial clock 2. Connect to VCC through a pullup resistor.", 7 SD3 (io) "Serial data 3. Connect to VCC through a pullup resistor.", 8 SC3 (io) "Serial clock 3. Connect to VCC through a pullup resistor.", 9 GND (power) "Ground", 10 SD4 (io) "Serial data 4. Connect to VCC through a pullup resistor.", 11 SC4 (io) "Serial clock 4. Connect to VCC through a pullup resistor.", 12 SD5 (io) "Serial data 5. Connect to VCC through a pullup resistor.", 13 SC5 (io) "Serial clock 5. Connect to VCC through a pullup resistor.", 14 SD6 (io) "Serial data 6. Connect to VCC through a pullup resistor.", 15 SC6 (io) "Serial clock 6. Connect to VCC through a pullup resistor.", 16 SD7 (io) "Serial data 7. Connect to VCC through a pullup resistor.", 17 SC7 (io) "Serial clock 7. Connect to VCC through a pullup resistor.", 18 A2 (in) "Address input 2. Connect directly to VCC or ground.", 19 SCL (in) "Serial clock bus. Connect to VCC through a pullup resistor.", 20 SDA (io) "Serial data bus. Connect to VCC through a pullup resistor.", 21 VCC (power) "Supply voltage", 22 A0 (in) "Address input 0. Connect directly to VCC or ground.", 23 A1 (in) "Address input 1. Connect directly to VCC or ground.", 24 ~{RESET} (in) "Active-low reset input. Connect to VCC through a pullup resistor, if not used.", 25 EP (power) "Exposed Pad"

## PCA9554ADB
designator U?
Remote 8-Bit I2C and SMBus I/O Expander with Interrupt Output and Configuration Registers, 8 Outputs, 2.3 to 5.5 V, -40 to 85 degC, 16-pin SSOP (DB), Green (RoHS & no Sb/Br); Manufacturer: Texas Instruments; PartNumber: PCA9554ADB; SubFamily: I2C IO Expander; No. of Outputs: 8; Interrupt Output: Yes; fSCLK(Max)(MHz): 0.1, 0.4; VCC(Min)(V): 2.3; VCC(Max)(V): 5.5; Max Frequency(kHz): 400; I2C Address: 0111 xxx; DatasheetVersion: SCPS127D; PackageVersion: revE, Dec-2001; PackageReference: DB16; PackageDescription: 16-Pin Plastic Small Outline Package, 6.2 x 5.3 mm Body, 0.65 mm Pitch; Supplier 1: Digi-Key; Supplier Part Number 1: PCA9554ADBTI-ND; Supplier 2: Newark; Supplier Part Number 2: 18M7523; Supplier 3: Mouser; Supplier Part Number 3: 595-PCA9554ADB; Eco-Plan: Green (RoHS & no Sb/Br); # of I/Os: 8; Vcc range(V): 2.3 to 5.5; Configuration Registers: Yes; 5V Tolerant I/O: Yes; Push-Pull I/O Type: Yes; Mounting Technology: Surface Mount; Code_JEDEC: MO-150; ComponentLink1Description: Datasheet; ComponentLink1URL: http://www.ti.com/general/docs/lit/getliterature.tsp?genericPartNumber=PCA9554A&fileType=pdf; ComponentLink2Description: Package Specification; ComponentLink2URL: http://www.ti.com/litv/pdf/msso002e
footprint DB16_N (SOP, 16-Leads, Body 6.2x5.3mm, Pitch 0.65mm, IPC Medium Density)
footprint DB16_L (SOP, 16-Leads, Body 6.2x5.3mm, Pitch 0.65mm, IPC High Density)
footprint DB16_M (SOP, 16-Leads, Body 6.2x5.3mm, Pitch 0.65mm, IPC Low Density)
pins: 1 A0 (in) "Address input. Connect directly to VCC or ground.", 2 A1 (in) "Address input. Connect directly to VCC or ground.", 3 A2 (in) "Address input. Connect directly to VCC or ground.", 4 P0 (io) "P-port input/output. Push-pull design structure.", 5 P1 (io) "P-port input/output. Push-pull design structure.", 6 P2 (io) "P-port input/output. Push-pull design structure.", 7 P3 (io) "P-port input/output. Push-pull design structure.", 8 GND (power) "Ground", 9 P4 (io) "P-port input/output. Push-pull design structure.", 10 P5 (io) "P-port input/output. Push-pull design structure.", 11 P6 (io) "P-port input/output. Push-pull design structure.", 12 P7 (io) "P-port input/output. Push-pull design structure.", 13 ~{INT} (oc) "Interrupt output. Connect to VCC through a pullup resistor.", 14 SCL (in) "Serial clock bus. Connect to VCC through a pullup resistor.", 15 SDA (io) "Serial data bus. Connect to VCC through a pullup resistor.", 16 VCC (power) "Supply voltage"